# EAGLE library part IS31FL3726 (library Custom)
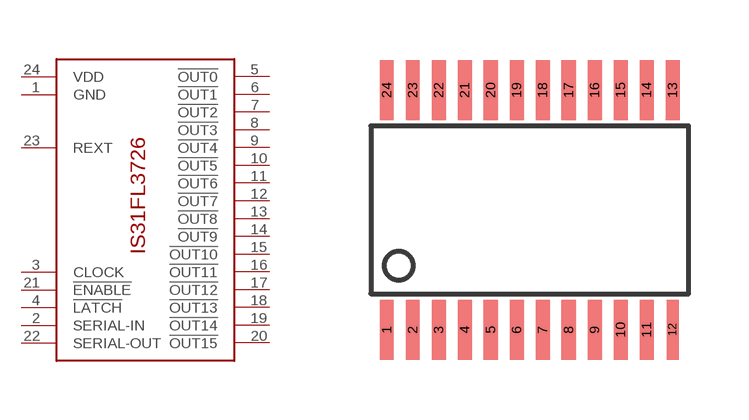
[diagram p1: symbol with the pads of TSSOP-24; footprint TSSOP-24]

Designator prefix -

## IS31FL3726  [TSSOP-24]
1  GND
2  SERIAL-IN
3  CLOCK
4  !LATCH
5  !OUT0
6  !OUT1
7  !OUT2
8  !OUT3
9  !OUT4
10  !OUT5
11  !OUT6
12  !OUT7
13  !OUT8
14  !OUT9
15  !OUT10
16  !OUT11
17  !OUT12
18  !OUT13
19  !OUT14
20  !OUT15
21  !ENABLE
22  SERIAL-OUT
23  REXT
24  VDD

## Footprint TSSOP-24 (pad centres in mm)
smd 0.35 x 1.5: 1 -3.4,-3; 2 -2.75,-3; 3 -2.1,-3; 4 -1.45,-3; 5 -0.8,-3; 6 -0.15,-3; 7 0.5,-3; 8 1.15,-3; 9 1.8,-3; 10 2.45,-3; 11 3.1,-3; 13 3.75,3; 14 3.1,3; 15 2.45,3; 16 1.8,3; 17 1.15,3; 18 0.5,3; 19 -0.15,3; 20 -0.8,3; 21 -1.45,3; 22 -2.1,3; 23 -2.75,3; 24 -3.4,3
smd 0.3 x 1.5: 12 3.75,-3